# Altium footprint library SW_Tactile_RightAngle_8.35mm.PcbLib: 1 footprints
Each footprint in its own frame and in the unit in brackets; x right, y up, seen from the top. Pads: shape width x height; smd on the part's side, far side on the other; paste and mask are expansions set on the pad; w line width, h text height; cw(c..) or ccw(c..) is an arc to the next point about the centre after c.
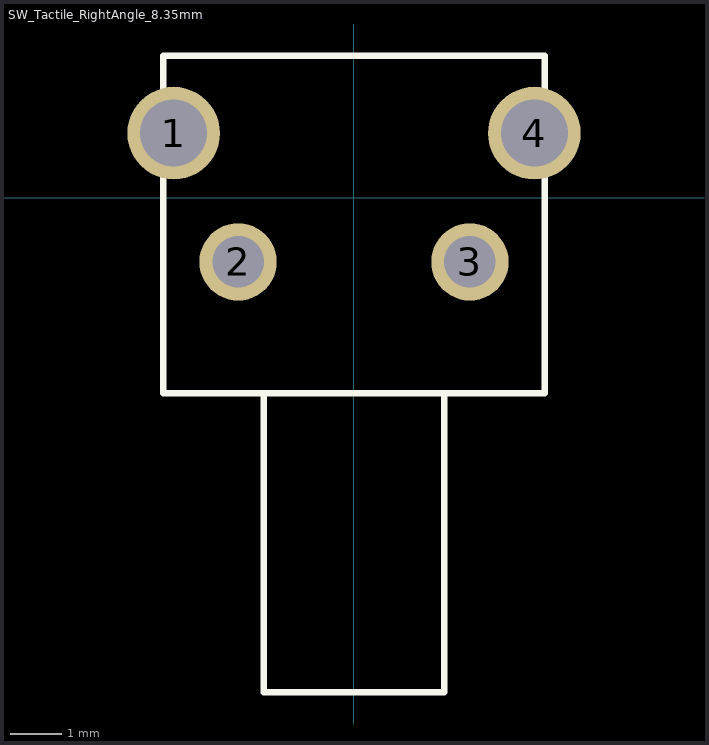
[diagram p0: the footprint, top view; thin cyan lines are the x and y axes]

## SW_Tactile_RightAngle_8.35mm [mm]
pads (4):
  round 1.8 hole 1.3: 1(-3.5,1.25) 4(3.5,1.25)
  round 1.5 hole 1: 2(-2.25,-1.25) 3(2.25,-1.25)
Top Overlay:
  lines w0.127: -1.75,-3.8 -1.75,-9.6 1.75,-9.6 1.75,-3.8 ; -1.75,-3.8 1.75,-3.8 ; -1.75,-3.8 -3.7,-3.8 -3.7,2.75 3.7,2.75 3.7,-3.8 1.75,-3.8
3D body: height 7.21, standoff -3.49, extent -4.2,-9.6 4.2,2.75